# EAGLE library part VNC2-48 (library FaBo-USB)
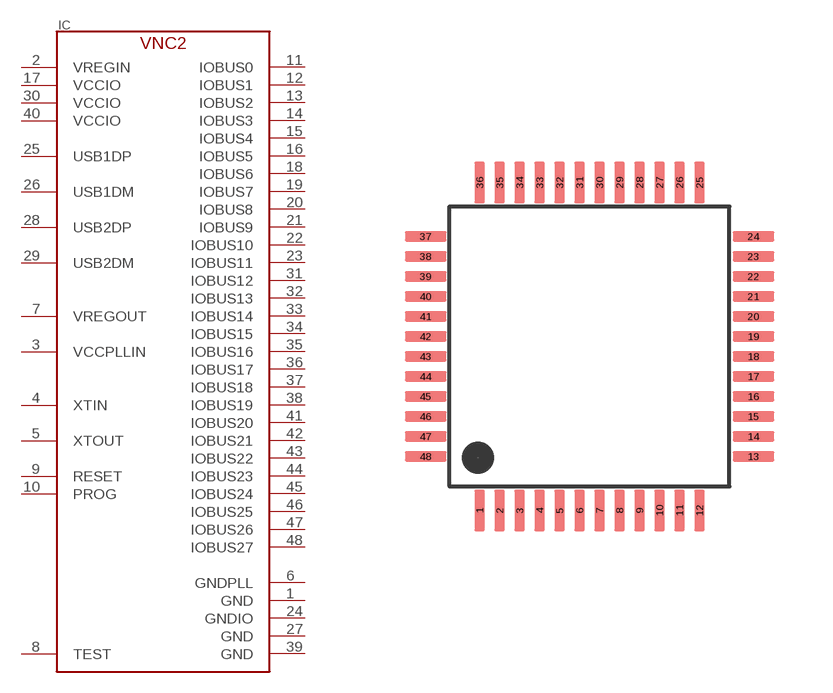
[diagram p3: symbol with the pads of LQFP-48; footprint LQFP-48]

Designator prefix IC

## VNC2-48L1B  [LQFP-48]
1  GND
2  VREGIN
3  VCCPLLIN
4  XTIN
5  XTOUT
6  GNDPLL
7  VREGOUT
8  TEST
9  RESET
10  PROG
11  IOBUS0
12  IOBUS1
13  IOBUS2
14  IOBUS3
15  IOBUS4
16  IOBUS5
17  VCCIO
18  IOBUS6
19  IOBUS7
20  IOBUS8
21  IOBUS9
22  IOBUS10
23  IOBUS11
24  GNDIO
25  USB1DP
26  USB1DM
27  GND
28  USB2DP
29  USB2DM
30  VCCIO
31  IOBUS12
32  IOBUS13
33  IOBUS14
34  IOBUS15
35  IOBUS16
36  IOBUS17
37  IOBUS18
38  IOBUS19
39  GND
40  VCCIO
41  IOBUS20
42  IOBUS21
43  IOBUS22
44  IOBUS23
45  IOBUS24
46  IOBUS25
47  IOBUS26
48  IOBUS27

## Footprint LQFP-48 (pad centres in mm)
smd 0.27 x 1.05: 1 -2.75,-4.1; 2 -2.25,-4.1; 3 -1.75,-4.1; 4 -1.25,-4.1; 5 -0.75,-4.1; 6 -0.25,-4.1; 7 0.25,-4.1; 8 0.75,-4.1; 9 1.25,-4.1; 10 1.75,-4.1; 11 2.25,-4.1; 12 2.75,-4.1; 25 2.75,4.1; 26 2.25,4.1; 27 1.75,4.1; 28 1.25,4.1; 29 0.75,4.1; 30 0.25,4.1; 31 -0.25,4.1; 32 -0.75,4.1; 33 -1.25,4.1; 34 -1.75,4.1; 35 -2.25,4.1; 36 -2.75,4.1
smd 1.05 x 0.27: 13 4.1,-2.75; 14 4.1,-2.25; 15 4.1,-1.75; 16 4.1,-1.25; 17 4.1,-0.75; 18 4.1,-0.25; 19 4.1,0.25; 20 4.1,0.75; 21 4.1,1.25; 22 4.1,1.75; 23 4.1,2.25; 24 4.1,2.75; 37 -4.1,2.75; 38 -4.1,2.25; 39 -4.1,1.75; 40 -4.1,1.25; 41 -4.1,0.75; 42 -4.1,0.25; 43 -4.1,-0.25; 44 -4.1,-0.75; 45 -4.1,-1.25; 46 -4.1,-1.75; 47 -4.1,-2.25; 48 -4.1,-2.75